# Altium schematic symbol library SM05B-GHS-TB_LF__SN_.SchLib: 1 symbol
Pins are listed as number, name and electrical type; pins without a type are passive.

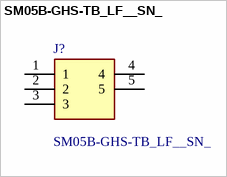
[diagram p0: symbol SM05B-GHS-TB_LF__SN_]

## SM05B-GHS-TB_LF__SN_
designator J?
JST GH Series, 1.25mm Pitch 5 Way Right Angle PCB Header, Solder Termination, 1A; Manufacturer_Name: JST (JAPAN SOLDERLESS TERMINALS); Manufacturer_Part_Number: SM05B-GHS-TB(LF)(SN); Mouser Part Number: *; Mouser Price/Stock: *; Arrow Part Number: SM05B-GHS-TB(LF)(SN); Arrow Price/Stock: https://www.arrow.com/en/products/sm05b-ghs-tb-lf-sn/jst-manufacturing; Datasheet Link: https://datasheet.datasheetarchive.com/originals/distributors/Datasheets_SAMA/e4ef010dc292ea31091454f6c0afb63a.pdf
footprint SM05B-GHS-TB
pins: 1, 2, 3, 4, 5